# Altium footprint library St_Olavs_alarm.PcbLib: 22 footprints (part 1 of 2)
Each footprint in its own frame and in the unit in brackets; x right, y up, seen from the top. Pads: shape width x height; smd on the part's side, far side on the other; paste and mask are expansions set on the pad; w line width, h text height; cw(c..) or ccw(c..) is an arc to the next point about the centre after c.
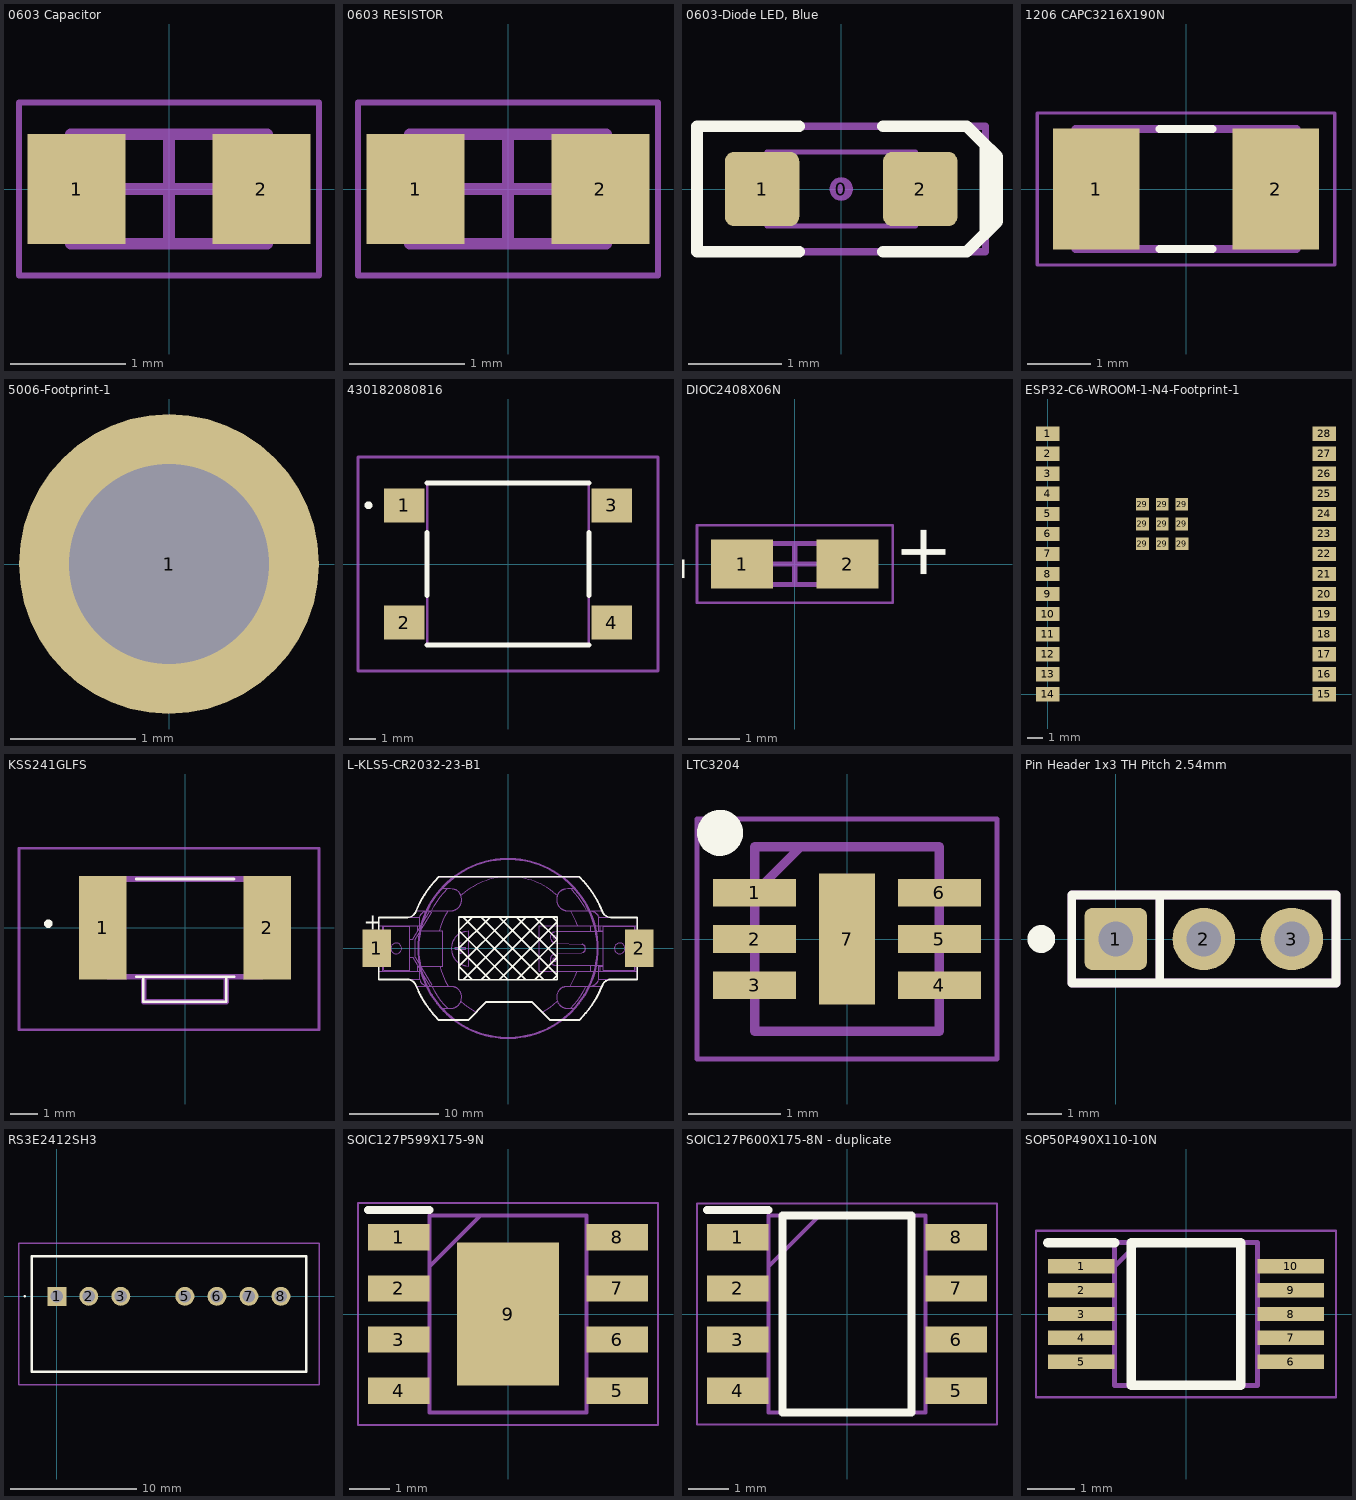
[diagram p0: the footprints below, top view; thin cyan lines are the x and y axes]

## 0603 Capacitor [mm]
pads (2):
  rect 0.85x0.95 smd: 1(-0.8,0) 2(0.8,0)
Mechanical 13:
  lines w0.1: -0.85,-0.475 -0.85,0.475 0.85,0.475 0.85,-0.475 -0.85,-0.475
Mechanical 15:
  lines w0.05: -1.3,-0.75 -1.3,0.75 1.3,0.75 1.3,-0.75 -1.3,-0.75
  lines w0.1: -0.475,0 0.475,0 ; 0,-0.475 0,0.475
3D body "CCS_CCSTD_0603_L1.75W0.95T0.95B0.35.step": height 0.95, standoff 0, extent -0.875,-0.45 0.875,0.5

## 0603 RESISTOR [mm] "Resistor, 0603, RMCF, 1,55x0,80mm, IPC Medium Density"
height 0.6
pads (2):
  rect 0.85x0.95 smd: 1(-0.8,0) 2(0.8,0)
Mechanical 13:
  lines w0.1: -0.85,-0.475 0.85,-0.475 0.85,0.475 -0.85,0.475 -0.85,-0.475
Mechanical 15:
  lines w0.05: -1.3,-0.75 1.3,-0.75 1.3,0.75 -1.3,0.75 -1.3,-0.75
  lines w0.1: -0.475,0 0.475,0 ; 0,-0.475 0,0.475
3D body: height 0.6, standoff 0, extent 0.55,-0.475 0.85,0.475
3D body: height 0.6, standoff 0, extent -0.85,-0.475 -0.55,0.475
3D body: height 0.6, standoff 0, extent -0.55,-0.475 0.55,0.475

## 0603-Diode LED, Blue [mm]
pads (3):
  round 0.254 on Mech14: 0(0,0)
  rrect25% 0.8x0.8 smd: 1(-0.85,0) 2(0.85,0)
Top Overlay:
  lines w0.127: -0.45,-0.675 -1.55,-0.675 -1.55,0.675 -0.45,0.675 ; 0.45,-0.675 1.35,-0.675 1.55,-0.475 1.55,0.475 1.35,0.675 0.45,0.675 ; 1.5,0.525 1.675,0.35 1.675,-0.35 1.525,-0.5
Mechanical 13:
  lines w0.05: -0.6,-0.4 -0.6,0.399 0.6,0.4 0.6,-0.4 -0.6,-0.399 ; -0.505,-0.398 -0.505,0.398 ; -0.5,-0.4 -0.8,-0.4 -0.8,0.4 -0.5,0.4 ; 0.5,-0.4 0.8,-0.4 0.8,0.4 0.5,0.4 ; 0.505,-0.398 0.505,0.398 ; -0.599,-0.398 -0.599,0.398 0.599,0.398 0.599,-0.398 -0.599,-0.398
Mechanical 14:
  lines w0.076: -1.55,-0.675 1.55,-0.675 1.55,0.675 -1.55,0.675 -1.55,-0.675
3D body "User Library-LED0603_BLUE.STEP": height 0.9, standoff 0, extent -0.85,-0.45 0.85,0.45

## 1206 CAPC3216X190N [mm]
pads (2):
  rect 1.37x1.91 smd: 1(-1.421,0) 2(1.421,0)
Top Overlay:
  lines w0.127: -0.42,-0.95 0.42,-0.95 ; -0.42,0.95 0.42,0.95
Mechanical 13:
  lines w0.127: -1.75,-0.95 -1.75,0.95 1.75,0.95 1.75,-0.95 -1.75,-0.95
Mechanical 15:
  lines w0.05: -2.355,-1.205 -2.355,1.205 2.355,1.205 2.355,-1.205 -2.355,-1.205
3D body "step_temp.STEP": height 1.9, standoff 0, extent -1.6,-0.8 1.6,0.8

## 5006-Footprint-1 [mm]
pads (1):
  round 2.4 hole 1.6: 1(0,0)
3D body "5007.STEP": height 5.59, standoff -3.68, extent -1.587,-1.587 1.588,1.588

## 430182080816 [mm]
pads (4):
  rect 1.55x1.3 smd: 1(-3.975,2.25) 2(-3.975,-2.25) 3(3.975,2.25) 4(3.975,-2.25)
Top Overlay:
  lines w0.2: -3.1,-3.1 3.1,-3.1 ; -3.1,-1.2 -3.1,1.2 ; -3.1,3.1 3.1,3.1 ; 3.1,-1.2 3.1,1.2 ; -5.4,2.25 ccw(c-5.35,2.25) -5.3,2.25 ; -5.4,2.25 cw(c-5.35,2.25) -5.3,2.25 ; -5.4,2.25 ccw(c-5.35,2.25) -5.3,2.25
Mechanical 13:
  lines w0.1: -3.1,-3.1 -3.1,3.1 3.1,3.1 3.1,-3.1 -3.1,-3.1
Mechanical 15:
  lines w0.1: -5.75,-4.1 -5.75,4.1 5.75,4.1 5.75,-4.1 -5.75,-4.1
3D body "430182080816_Download_STP_430182080816_rev1.stp": height 8, standoff 0, extent -4.5,-3.1 4.5,3.1

## DIOC2408X06N [mm] "Chip Diode, 2-Leads, Body 2,40x0,80mm, IPC Medium Density"
height 0.6
pads (2):
  rect 1.2x0.95 smd: 1(-1.025,0) 2(1.025,0)
Top Overlay:
  text "+" at 2.928,-0.348 h1
  text "-" at -1.819,-0.348 h1
Mechanical 13:
  lines w0.1: -1.2,-0.4 1.2,-0.4 1.2,0.4 -1.2,0.4 -1.2,-0.4
Mechanical 15:
  lines w0.05: -1.9,-0.75 1.9,-0.75 1.9,0.75 -1.9,0.75 -1.9,-0.75
  lines w0.1: -0.4,0 0.4,0 ; 0,-0.4 0,0.4
3D body: height 0.6, standoff 0, extent 0.5,-0.4 1.2,0.4
3D body: height 0.6, standoff 0, extent -1.2,-0.4 -0.5,0.4
3D body: height 0.6, standoff 0, extent -0.5,-0.4 0.5,0.4

## ESP32-C6-WROOM-1-N4-Footprint-1 [mm]
pads (37):
  rect 1.5x0.9 smd: 1(0,16.51) 2(0,15.24) 3(0,13.97) 4(0,12.7) 5(0,11.43) 6(0,10.16) 7(0,8.89) 8(0,7.62) 9(0,6.35) 10(0,5.08) 11(0,3.81) 12(0,2.54) 13(0,1.27) 14(0,0) 15(17.5,0) 16(17.5,1.27) 17(17.5,2.54) 18(17.5,3.81) 19(17.5,5.08) 20(17.5,6.35) 21(17.5,7.62) 22(17.5,8.89) 23(17.5,10.16) 24(17.5,11.43) 25(17.5,12.7) 26(17.5,13.97) 27(17.5,15.24) 28(17.5,16.51)
  rect 0.8x0.8 smd: 29(5.995,9.54) 29(5.995,10.79) 29(5.995,12.04) 29(7.245,9.54) 29(7.245,10.79) 29(7.245,12.04) 29(8.489,10.79) 29(8.489,12.04) 29(8.495,9.54)
Top Layer:
3D body "ESP32-C6-WROOM-1.STEP": height 3.16, standoff 0, extent -0.281,-1.487 17.719,24.013

## KSS241GLFS [mm] "KSS241GLFS Tactile Switch"
pads (2):
  rect 1.7x3.7 smd: 1(-2.95,0) 2(2.95,0)
Top Overlay:
  lines w0.1: -1.75,-1.75 -1.475,-1.75 -1.75,-1.75 ; -1.75,1.75 1.75,1.75 -1.75,1.75 ; -1.5,-2.65 1.475,-2.65 1.475,-1.75 -1.5,-1.75 -1.5,-2.65 ; 1.5,-1.75 1.75,-1.75 1.5,-1.75
  lines w0.2: -4.9,0.1 ccw(c-4.9,0.15) -4.9,0.2 ; -4.9,0.1 cw(c-4.9,0.15) -4.9,0.2 ; -4.9,0.1 ccw(c-4.9,0.15) -4.9,0.2
Mechanical 13:
  lines w0.2: -2.75,-1.75 2.75,-1.75 2.75,1.75 -2.75,1.75 -2.75,-1.75 ; -1.475,-2.65 1.475,-2.65 1.475,-1.75 -1.475,-1.75 -1.475,-2.65
Mechanical 15:
  lines w0.1: -5.95,-3.65 4.8,-3.65 4.8,2.85 -5.95,2.85 -5.95,-3.65
3D body "KSS241GLFS.stp": height 1.66, standoff 0.01, extent -3.51,-2.71 3.49,1.7

## L-KLS5-CR2032-23-B1 [mm]
pads (2):
  rect 3.2x4.2 smd: 1(-14.65,0) 2(14.65,0)
Top Overlay:
  drawing of 220 lines, arcs and shapes, not listed
  text "+" at -16.1,2.1 h1.78
Mechanical 5:
  circle w0.25: c0,0 r10
Mechanical 7:
  drawing of 1332 lines, arcs and shapes, not listed
3D body "BS-2032-6-2 SMT 3D???.step": height 5.17, standoff -0.01, extent -15.7,-8 15.85,8

## LTC3204 [mm]
pads (7):
  rect 0.9x0.3 smd: 1(-1,0.5) 2(-1,0) 3(-1,-0.5) 4(1,-0.5) 5(1,0) 6(1,0.5)
  rect 0.61x1.42 smd: 7(0,0)
Top Overlay:
  circle w0.25: c-1.375,1.15 r0.125
Mechanical 13:
  lines w0.1: -1,0.5 -0.5,1 ; -1,-1 -1,1 1,1 1,-1 -1,-1
Mechanical 15:
  lines w0.05: -1.625,-1.3 -1.625,1.3 1.625,1.3 1.625,-1.3 -1.625,-1.3
3D body "LTC3204BEDC-3.3#TRMPBF.stp": height 0.8, standoff 0, extent -1.05,-1 1.05,1

## Pin Header 1x3 TH Pitch 2.54mm [mm] "PinHeader 1x3 TH Pitch 2.54mm"
height 9.5
pads (3):
  rrect25% 1.8x1.8 hole 1: 1(0,0)
  round 1.8 hole 1: 2(2.54,0) 3(5.08,0)
Top Overlay:
  circle w0.5: c-2.15,0 r0.15
  lines w0.254: 1.27,-1.27 1.27,1.27 -1.27,1.27 ; -1.27,1.27 6.35,1.27 6.35,-1.27 -1.27,-1.27 -1.27,1.27
Mechanical 3:
  lines w0.254: 1.27,-1.27 1.27,1.27 -1.27,1.27 ; -1.27,1.27 6.35,1.27 6.35,-1.27 -1.27,-1.27 -1.27,1.27
3D body "Pin Header 1x3 TH Pitch 2.54mm.stp": height 9.5, standoff -3.2, extent -1.27,-1.27 6.35,1.27

## RS3E2412SH3 [mm]
pads (7):
  rect 1.5x1.5 hole 1: 1(0,0)
  round 1.5 hole 1: 2(2.54,0) 3(5.08,0) 5(10.16,0) 6(12.7,0) 7(15.24,0) 8(17.78,0)
Top Overlay:
  lines w0.1: -2.6,0 cw(c-2.55,0) -2.5,0 cw(c-2.55,0) -2.6,0
  lines w0.2: -2,-6 19.8,-6 19.8,3.2 -2,3.2 -2,-6
Mechanical 13:
  lines w0.1: -2,-6 19.8,-6 19.8,3.2 -2,3.2 -2,-6
Mechanical 15:
  lines w0.1: -3,-7 20.8,-7 20.8,4.2 -3,4.2 -3,-7
3D body "RS3E-2412S_H3.stp": height 11, standoff -4.2, extent -2,-6 19.8,3.2

## SOIC127P599X175-9N [mm]
pads (9):
  rect 1.526x0.65 smd: 1(-2.712,1.905) 2(-2.712,0.635) 3(-2.712,-0.635) 4(-2.712,-1.905) 5(2.712,-1.905) 6(2.712,-0.635) 7(2.712,0.635) 8(2.712,1.905)
  rect 2.53x3.55 smd: 9(0,0)
Top Overlay:
  lines w0.2: -3.475,2.58 -1.95,2.58
Mechanical 13:
  lines w0.1: -1.95,1.181 -0.68,2.451 ; -1.95,-2.451 -1.95,2.451 1.95,2.451 1.95,-2.451 -1.95,-2.451
Mechanical 15:
  lines w0.05: -3.725,-2.752 -3.725,2.752 3.725,2.752 3.725,-2.752 -3.725,-2.752
3D body "LT6370HS8E#TRPBF.stp": height 1.75, standoff 0, extent -2.997,-2.451 2.997,2.451

## SOIC127P600X175-8N - duplicate [mm]
pads (8):
  rect 1.525x0.65 smd: 1(-2.712,1.905) 2(-2.712,0.635) 3(-2.712,-0.635) 4(-2.712,-1.905) 5(2.712,-1.905) 6(2.712,-0.635) 7(2.712,0.635) 8(2.712,1.905)
Top Overlay:
  lines w0.2: -3.475,2.58 -1.95,2.58 ; -1.6,-2.45 -1.6,2.45 1.6,2.45 1.6,-2.45 -1.6,-2.45
Mechanical 13:
  lines w0.1: -1.95,1.18 -0.68,2.45 ; -1.95,-2.45 -1.95,2.45 1.95,2.45 1.95,-2.45 -1.95,-2.45
Mechanical 15:
  lines w0.05: -3.725,-2.75 -3.725,2.75 3.725,2.75 3.725,-2.75 -3.725,-2.75
3D body "NE555DR.stp": height 1.75, standoff 0, extent -3,-2.45 3,2.45

## SOP50P490X110-10N [mm]
pads (10):
  rect 1.4x0.3 smd: 1(-2.2,1) 2(-2.2,0.5) 3(-2.2,0) 4(-2.2,-0.5) 5(-2.2,-1) 6(2.2,-1) 7(2.2,-0.5) 8(2.2,0) 9(2.2,0.5) 10(2.2,1)
Top Overlay:
  lines w0.2: -2.9,1.5 -1.5,1.5 ; -1.15,-1.5 1.15,-1.5 1.15,1.5 -1.15,1.5 -1.15,-1.5
Mechanical 13:
  lines w0.1: -1.5,1 -1,1.5 ; -1.5,-1.5 1.5,-1.5 1.5,1.5 -1.5,1.5 -1.5,-1.5
Mechanical 15:
  lines w0.05: -3.15,-1.75 3.15,-1.75 3.15,1.75 -3.15,1.75 -3.15,-1.75
3D body "MCP48FVB02-E_UN.stp": height 1.1, standoff 0, extent -2.45,-1.5 2.45,1.5